# Altium schematic symbol library 5-103639-5.SchLib: 2 symbols
Pins are listed as number, name and electrical type; pins without a type are passive.

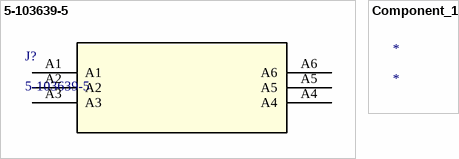
[diagram p0: symbols 5-103639-5 to Component_1]

## 5-103639-5
designator J?
No Description Available; Mfr_Name: TE Connectivity; Copyright: Copyright (C) 2022 Ultra Librarian. All rights reserved.; Manufacturer_Part_Number: 5-103639-5; RefDes: RefDes; Type: DEV
footprint 5-103639-5_TYC
pins: A1, A2, A3, A4, A5, A6

## Component_1
designator *